# Altium schematic symbol library Dashboard.SchLib: 8 symbols
Pins are listed as number, name and electrical type; pins without a type are passive.

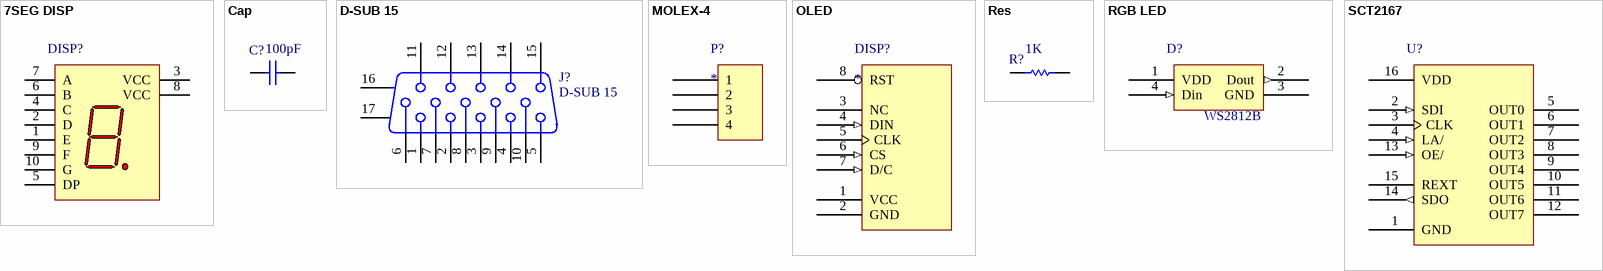
[diagram p0: symbols 7SEG DISP to SCT2167]

## 7SEG DISP
designator DISP?  (value not drawn)
OPTO PLUS LED CORP. OPD-S8023LB-BW; Supplier: TME; Supplier Part Number: OPD-S8023LB-BW; Manufacturer: Opto Plus Led Corp.
footprint 7_SEG_LED_0.8_INCH (OPTO PLUS LED CORP. OPD-S8023LB-BW)
pins: 1 E "Cathode", 2 D "Cathode", 3 VCC (power) "Anode", 4 C "Cathode", 5 DP "Cathode", 6 B "Cathode", 7 A "Cathode", 8 VCC (power) "Anode", 9 F "Cathode", 10 G "Cathode"

## Cap
designator C?  value 100pF  (hidden comment: Cap)
Capacitor; Supplier Part Number: *; Supplier: *; Manufacutrer: *
simulation model CAP (Capacitor)
signal-integrity model Cap
footprint CAP_0805_IPC_MD (Chip Capacitor, 2-Leads, 0805, SAMSUNG, IPC Medium Density)
pins: 1, 2

## D-SUB 15
designator J?
Receptacle Assembly, 15-Pin, Sim Line Connector; PackageDocument: B; Positions: 15; Gender: Receptacle Header; Published: 15-Jun-2001; LatestRevisionDate: 17-Jul-2002; LatestRevisionNote: Re-released for DXP Platform.; DatasheetDocument: 24-Nov-1999; PackageReference: 788574; Publisher: Altium Limited; Orientation: Right Angle; Manufacturer: *; Supplier: *; Supplier Part Number: *
footprint Dsub-3H15 (Dsub 15 pins, right angled)
signal-integrity model Connector
pins: 1, 2, 3, 4, 5, 6, 7, 8, 9, 10, 11, 12, 13, 14, 15, 16 MH1, 17 MH2

## MOLEX-4
designator P?
4 pin socket; Manufacturer: Molex; Supplier: TME; Supplier Part Number: MX-43045-0400
footprint MOLEX_4_PIN
pins: 1, 2, 3, 4

## OLED
designator DISP?
Manufacturer: *; Manufacturer Part Number: *
footprint OLED_1.3_INCH
pins: 1 VCC (power), 2 GND (power), 3 NC, 4 DIN (in), 5 CLK, 6 CS (in), 7 D/C (in), 8 RST

## Res
designator R?  value 1K  (hidden comment: Res)
Resistor; Supplier: *; Supplier Part Number: *; Manufacturer: *
simulation model RESISTOR (Resistor)
signal-integrity model Res
footprint RES_0805_IPC_MD (Chip Resistor, 2-Leads, 0805, Royal Ohm, IPC Medium Density)
pins: 1, 2

## RGB LED
designator D?  Manufacturer Part Number: WS2812B  (hidden comment: *)
Programmable RGB LED; Manufacturer: Worldsemi; Supplier: TME; Supplier Part Number: WS2812B
footprint WS2812B
pins: 1 VDD (power), 2 Dout (out), 3 GND (power), 4 Din (in)

## SCT2167
designator U?  (value not drawn)
Led controller; Manufacturer: Starchips Technology; Supplier: TME; Supplier Part Number: SCT2167CSSG
footprint SSOP_16_IPC_MD (SSOP, 16-Leads, Pitch 0,64mm, IPC Medium Density)
pins: 1 GND (power), 2 SDI (in), 3 CLK, 4 LA/ (in), 5 OUT0 (oc), 6 OUT1 (oc), 7 OUT2 (oc), 8 OUT3 (oc), 9 OUT4 (oc), 10 OUT5 (oc), 11 OUT6 (oc), 12 OUT7 (oc), 13 OE/ (in), 14 SDO (out), 15 REXT, 16 VDD (power)